# Altium schematic symbol library botao reset_erase CK.SchLib: 1 symbol
Pins are listed as number, name and electrical type; pins without a type are passive.

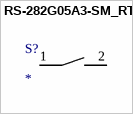
[diagram p0: symbol RS-282G05A3-SM_RT]

## RS-282G05A3-SM_RT
designator S?
Switch; Manufacturer_Name: C & K COMPONENTS; Manufacturer_Part_Number: RS-282G05A3-SM RT; Datasheet Link: https://media.digikey.com/pdf/Data%20Sheets/C&K/RS-282G05A-SM_RT.pdf; Height: 2mm; Mouser Part Number: 611-RS-282G05A3-SMRT; Mouser Price/Stock: https://www.mouser.com/Search/ProductDetail.aspx?qs=T%252bgPUmif8%252bjtyA9QuPnoeg%3d%3d
footprint RS282G05A3SMRT
pins: 1 COM, 2 NC